# Altium footprint library Custom_Footprints.PcbLib: 36 footprints (part 3 of 3)
Each footprint in its own frame and in the unit in brackets; x right, y up, seen from the top. Pads: shape width x height; smd on the part's side, far side on the other; paste and mask are expansions set on the pad; w line width, h text height; cw(c..) or ccw(c..) is an arc to the next point about the centre after c.
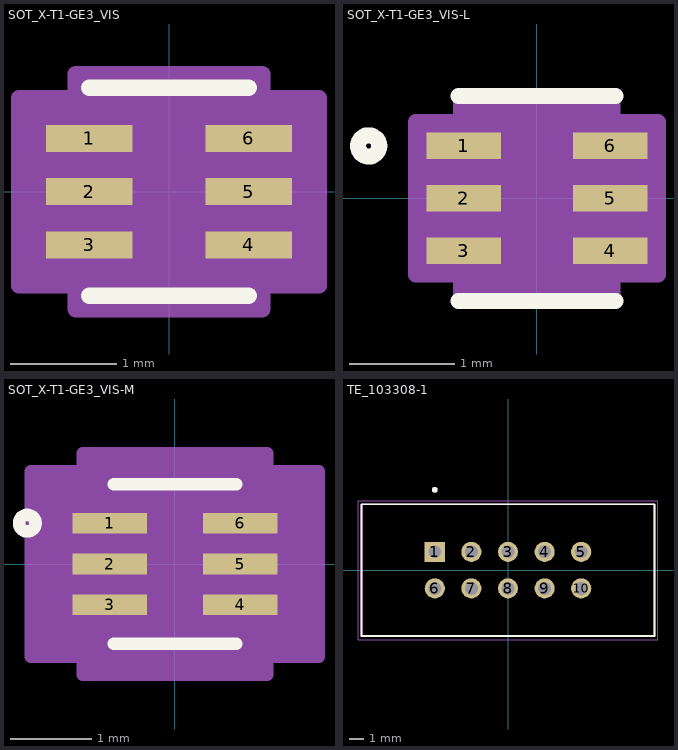
[diagram p2: the footprints below, top view; thin cyan lines are the x and y axes]

## SOT_X-T1-GE3_VIS [mil]
pads (6):
  rect 32x10 smd paste+0 mask+0: 1(-29.5,19.69) 2(-29.5,0) 3(-29.5,-19.69) 4(29.5,-19.69) 5(29.5,0) 6(29.5,19.69)
Top Overlay:
  lines w6: -29.5,-38.5 29.5,-38.5 ; -29.5,38.5 29.5,38.5
Mechanical 13:
  circle w1: c-13.5,19.69 r3
  lines w1: -12,33.5 ccw(c0,33.5) 12,33.5 ; -24.5,-33.5 24.5,-33.5 24.5,33.5 -24.5,33.5 -24.5,-33.5
Mechanical 15:
  region: -34.5,-34.69 -55.5,-34.69 -55.5,34.69 -34.5,34.69 -34.5,43.5 34.5,43.5 34.5,34.69 55.5,34.69 55.5,-34.69 34.5,-34.69 34.5,-43.5 -34.5,-43.5
  lines w6: -55.5,-34.69 -55.5,34.69 -34.5,34.69 -34.5,43.5 34.5,43.5 34.5,34.69 55.5,34.69 55.5,-34.69 34.5,-34.69 34.5,-43.5 -34.5,-43.5 -34.5,-34.69 -55.5,-34.69
3D body "SOT_X-T1-GE3_VIS.step": height 24.09, standoff 0, extent -33.5,-33.5 33.5,33.5

## SOT_X-T1-GE3_VIS-L [mil]
pads (6):
  rect 28x10 smd paste+0 mask+0: 1(-27.5,19.69) 2(-27.5,0) 3(-27.5,-19.69) 4(27.5,-19.69) 5(27.5,0) 6(27.5,19.69)
Top Overlay:
  circle w6: c-63.19,19.69 r4
  lines w6: -29.5,-38.5 29.5,-38.5 ; -29.5,38.5 29.5,38.5
  text ".Designator" at -137.5,-25 h50
Mechanical 13:
  circle w1: c-13.5,19.69 r3
  lines w1: -12,33.5 ccw(c0,33.5) 12,33.5 ; -24.5,-33.5 24.5,-33.5 24.5,33.5 -24.5,33.5 -24.5,-33.5
  text ".Designator" at -137.5,-25 h50
Mechanical 15:
  region: -28.5,-28.69 -45.5,-28.69 -45.5,28.69 -28.5,28.69 -28.5,37.5 28.5,37.5 28.5,28.69 45.5,28.69 45.5,-28.69 28.5,-28.69 28.5,-37.5 -28.5,-37.5
  lines w6: -45.5,-28.69 -45.5,28.69 -28.5,28.69 -28.5,37.5 28.5,37.5 28.5,28.69 45.5,28.69 45.5,-28.69 28.5,-28.69 28.5,-37.5 -28.5,-37.5 -28.5,-28.69 -45.5,-28.69
3D body "SOT_X-T1-GE3_VIS.step": height 24.09, standoff 0, extent -33.5,-33.5 33.5,33.5

## SOT_X-T1-GE3_VIS-M [mil]
pads (6):
  rect 36x10 smd paste+0 mask+0: 1(-31.5,19.69) 2(-31.5,0) 3(-31.5,-19.69) 4(31.5,-19.69) 5(31.5,0) 6(31.5,19.69)
Top Overlay:
  circle w6: c-71.19,19.69 r4
  lines w6: -29.5,-38.5 29.5,-38.5 ; -29.5,38.5 29.5,38.5
  text ".Designator" at -137.5,-25 h50
Mechanical 13:
  circle w1: c-13.5,19.69 r3
  lines w1: -12,33.5 ccw(c0,33.5) 12,33.5 ; -24.5,-33.5 24.5,-33.5 24.5,33.5 -24.5,33.5 -24.5,-33.5
  text ".Designator" at -137.5,-25 h50
Mechanical 15:
  region: -44.5,-44.69 -69.5,-44.69 -69.5,44.69 -44.5,44.69 -44.5,53.5 44.5,53.5 44.5,44.69 69.5,44.69 69.5,-44.69 44.5,-44.69 44.5,-53.5 -44.5,-53.5
  lines w6: -69.5,-44.69 -69.5,44.69 -44.5,44.69 -44.5,53.5 44.5,53.5 44.5,44.69 69.5,44.69 69.5,-44.69 44.5,-44.69 44.5,-53.5 -44.5,-53.5 -44.5,-44.69 -69.5,-44.69
3D body "SOT_X-T1-GE3_VIS.step": height 24.09, standoff 0, extent -33.5,-33.5 33.5,33.5

## TE_103308-1 [mil]
pads (10):
  rect 55x55 hole 35: 1(-200,50)
  round 55 hole 35: 2(-100,50) 3(0,50) 4(100,50) 5(200,50) 6(-200,-50) 7(-100,-50) 8(0,-50) 9(100,-50) 10(200,-50)
Top Overlay:
  circle w7.87: c-200,219.37 r3.94
  lines w5: -400,-180 -400,180 400,180 400,-180 -400,-180
Mechanical 13:
  circle w7.87: c-200,219.37 r3.94
  lines w5: -400,-180 -400,180 400,180 400,-180 -400,-180
Mechanical 15:
  lines w1.97: -409.84,-189.84 -409.84,189.84 409.84,189.84 409.84,-189.84 -409.84,-189.84